# Altium schematic symbol library RT1206BRD075KL.SchLib: 1 symbol
Pins are listed as number, name and electrical type; pins without a type are passive.

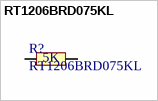
[diagram p0: symbol RT1206BRD075KL]

## RT1206BRD075KL
designator R?
footprint 1206
pins: 0 6, 1 5
text: 5K